# Altium schematic symbol library TouchSensor.SchLib: 1 symbol
Pins are listed as number, name and electrical type; pins without a type are passive.

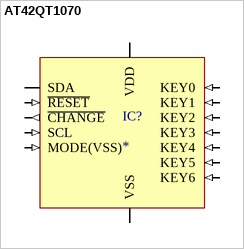
[diagram p0: symbol AT42QT1070]

## AT42QT1070
designator IC?
Seven-channel capacitive touch sensor (Comms mode)
footprint VQFN-20-EXPOSED-PAD_M (VQFN, 20-Leads, Body 3x3mm, Pitch 0.45mm, IPC Low Density)
pins: 1 KEY4 (in), 2 KEY3 (in), 3 KEY2 (in), 4 KEY1 (in), 5 KEY0 (in), 8 VSS, 9 VDD (power), 11 MODE(VSS) (in), 12 SDA (io), 13 ~{RESET} (in), 14 ~{CHANGE} (out), 15 SCL (in), 16 KEY6 (in), 17 KEY5 (in)